# Altium footprint library LC86LICMD.PcbLib: 1 footprints
Each footprint in its own frame and in the unit in brackets; x right, y up, seen from the top. Pads: shape width x height; smd on the part's side, far side on the other; paste and mask are expansions set on the pad; w line width, h text height; cw(c..) or ccw(c..) is an arc to the next point about the centre after c.
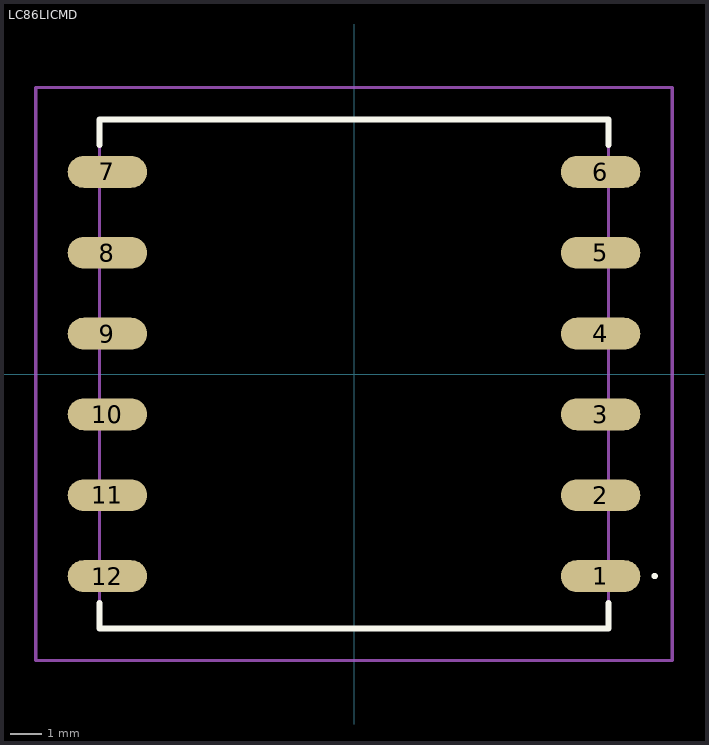
[diagram p0: the footprint, top view; thin cyan lines are the x and y axes]

## LC86LICMD [mm]
pads (12):
  oval 2.5x1 smd: 1(7.75,-6.35) 2(7.75,-3.81) 3(7.75,-1.27) 4(7.75,1.27) 5(7.75,3.81) 6(7.75,6.35) 7(-7.75,6.35) 8(-7.75,3.81) 9(-7.75,1.27) 10(-7.75,-1.27) 11(-7.75,-3.81) 12(-7.75,-6.35)
Top Overlay:
  lines w0.1: 9.4,-6.35 9.4,-6.35 ; 9.4,-6.35 ccw(c9.45,-6.35) 9.5,-6.35 ; 9.4,-6.35 cw(c9.45,-6.35) 9.5,-6.35 ; 9.5,-6.35 9.5,-6.35
  lines w0.2: -8,-7.2 -8,-8 8,-8 8,-7.2 ; -8,7.2 -8,8 8,8 8,7.2
Mechanical 15:
  lines w0.1: -8,-8 8,-8 8,8 -8,8 -8,-8
Mechanical 20:
  lines w0.1: -10,-9 10,-9 10,9 -10,9 -10,-9